# Altium footprint library PCB - LEADLESS - QFN - TI VQFN-28 RVE0028A.PcbLib: 1 footprints
Each footprint in its own frame and in the unit in brackets; x right, y up, seen from the top. Pads: shape width x height; smd on the part's side, far side on the other; paste and mask are expansions set on the pad; w line width, h text height; cw(c..) or ccw(c..) is an arc to the next point about the centre after c.
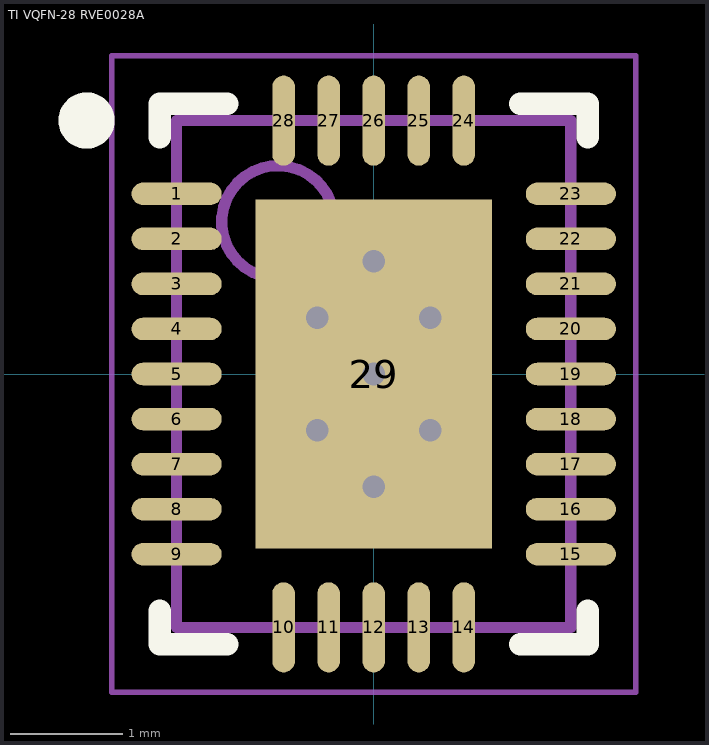
[diagram p0: the footprint, top view; thin cyan lines are the x and y axes]

## TI VQFN-28 RVE0028A [mm] "QFN, 28-Leads, Body 3.50x4.50mm, Pitch 0.40mm, Thermal Pad 2.10x3.10mm, IPC Medium Density"
height 1
pads (29):
  oval 0.8x0.2 smd: 1(-1.75,1.6) 2(-1.75,1.2) 3(-1.75,0.8) 4(-1.75,0.4) 5(-1.75,0) 6(-1.75,-0.4) 7(-1.75,-0.8) 8(-1.75,-1.2) 9(-1.75,-1.6) 15(1.75,-1.6) 16(1.75,-1.2) 17(1.75,-0.8) 18(1.75,-0.4) 19(1.75,0) 20(1.75,0.4) 21(1.75,0.8) 22(1.75,1.2) 23(1.75,1.6)
  oval 0.2x0.8 smd: 10(-0.8,-2.25) 11(-0.4,-2.25) 12(0,-2.25) 13(0.4,-2.25) 14(0.8,-2.25) 24(0.8,2.25) 25(0.4,2.25) 26(0,2.25) 27(-0.4,2.25) 28(-0.8,2.25)
  rect 2.1x3.1 smd: 29(0,0)
via -0.5,0.5 diameter 0.5 hole 0.2
via -0.5,-0.5 diameter 0.5 hole 0.2
via 0.5,0.5 diameter 0.5 hole 0.2
via 0.5,-0.5 diameter 0.5 hole 0.2
via 0,1 diameter 0.5 hole 0.2
via 0,-1 diameter 0.5 hole 0.2
via 0,0 diameter 0.5 hole 0.2
Top Overlay:
  circle w0.25: c-2.55,2.25 r0.125
  lines w0.2: -1.9,-2.1 -1.9,-2.4 -1.3,-2.4 ; -1.9,2.1 -1.9,2.4 -1.3,2.4 ; 1.3,-2.4 1.9,-2.4 1.9,-2.1 ; 1.3,2.4 1.9,2.4 1.9,2.1
Mechanical 13:
  circle w0.1: c-0.85,1.35 r0.5
  lines w0.1: -1.75,-2.25 1.75,-2.25 1.75,2.25 -1.75,2.25 -1.75,-2.25
Mechanical 15:
  lines w0.05: -2.325,-2.825 2.325,-2.825 2.325,2.825 -2.325,2.825 -2.325,-2.825
  lines w0.1: -0.5,0 0.5,0 ; 0,-0.5 0,0.5
3D body "TI - VQFN-28 - RVE0028A v1.step": height 1, standoff 0, extent -1.75,-2.25 1.75,2.25